# EAGLE library part MCP9600T-I/MX (library 16A-01)
MCP9600 Series Thermocouple Electromotive Force to ±1.5°C Converter - VQFN-2 Check availability <https://pricing.snapeda.com/parts/MCP9600T-I/MX/Microchip%20Technology/view-part?ref=eda>
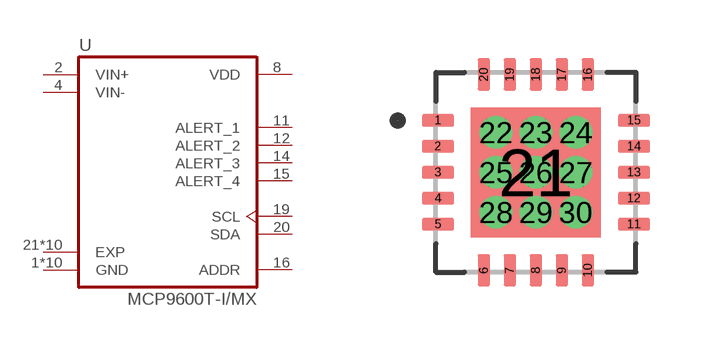
[diagram p1: symbol with the pads of QFN65P500X500X100-21N_MCP9600T-I/MX; footprint QFN65P500X500X100-21N_MCP9600T-I/MX]

Designator prefix U

## MCP9600T-I/MX (AVAILABILITY: In Stock; CHECK_PRICES: https://www.snapeda.com/parts/MCP9600T-I/MX/Microchip/view-part/?ref=eda; DESCRIPTION: IC THRMOCPLE TO DIG CONV 20MQFN; MF: Microchip Technology; MP: MCP9600T-I/MX; PACKAGE: VQFN-20 Microchip; PRICE: None; SNAPEDA_LINK: https://www.snapeda.com/parts/MCP9600T-I/MX/Microchip/view-part/?ref=snap)  [QFN65P500X500X100-21N_MCP9600T-I/MX]
1  GND  pwr
2  VIN+  in
3  GND  pwr
4  VIN-  in
5  GND  pwr
6  GND  pwr
7  GND  pwr
8  VDD  pwr
9  GND  pwr
10  GND  pwr
11  ALERT_1  out
12  ALERT_2  out
13  GND  pwr
14  ALERT_3  out
15  ALERT_4  out
16  ADDR  in
17  GND  pwr
18  GND  pwr
19  SCL  in
20  SDA
21  EXP  pwr
22  EXP  pwr
23  EXP  pwr
24  EXP  pwr
25  EXP  pwr
26  EXP  pwr
27  EXP  pwr
28  EXP  pwr
29  EXP  pwr
30  EXP  pwr

## Footprint QFN65P500X500X100-21N_MCP9600T-I/MX (pad centres in mm)
smd 0.81 x 0.32: 1 -2.45,1.3; 2 -2.45,0.65; 3 -2.45,0; 4 -2.45,-0.65; 5 -2.45,-1.3; 11 2.45,-1.3; 12 2.45,-0.65; 13 2.45,0; 14 2.45,0.65; 15 2.45,1.3
smd 0.32 x 0.81: 6 -1.3,-2.45; 7 -0.65,-2.45; 8 0,-2.45; 9 0.65,-2.45; 10 1.3,-2.45; 16 1.3,2.45; 17 0.65,2.45; 18 0,2.45; 19 -0.65,2.45; 20 -1.3,2.45
smd 3.25 x 3.25: 21 0,0
drill 0.3 pad 0.5: 22 -1,1; 23 0,1; 24 1,1; 25 -1,0; 26 0,0; 27 1,0; 28 -1,-1; 29 0,-1; 30 1,-1